# Altium footprint library Cap THD Pad.PcbLib: 2 footprints
Each footprint in its own frame and in the unit in brackets; x right, y up, seen from the top. Pads: shape width x height; smd on the part's side, far side on the other; paste and mask are expansions set on the pad; w line width, h text height; cw(c..) or ccw(c..) is an arc to the next point about the centre after c.
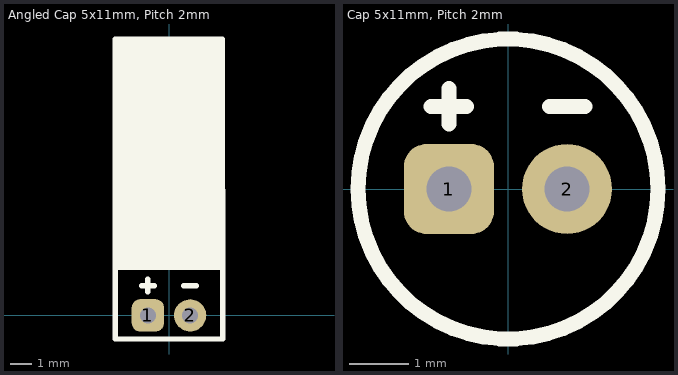
[diagram p0: the footprints below, top view; thin cyan lines are the x and y axes]

## Angled Cap 5x11mm, Pitch 2mm [mil] "Aluminum Electrolytic Capacitors Angled 5x11mm, 2mm Pin Pitch"
pads (2):
  rrect50% 60x60 hole 30: 1(-39.37,0)
  round 60 hole 30: 2(39.37,0)
Top Overlay:
  rectangle: -100,84 100,514
  lines w10: -100,514 -100,-44 ; -99,-44 -100,-44 ; -99,514 99,514 100,-44 -100,-44 ; -51.18,55.12 -27.56,55.12 ; -39.37,43.31 -39.37,66.93 ; 27.56,55.12 51.18,55.12
3D body "Cap Alu 5x11x2mm Angled.step": height 199.43, standoff -136.22, extent -99.42,-10.69 99.43,513.76

## Cap 5x11mm, Pitch 2mm [mil] "Aluminum Electrolytic Capacitors Vertical 5x11mm, 2mm Pin Pitch"
pads (2):
  rrect50% 60x60 hole 30: 1(-39.37,0)
  round 60 hole 30: 2(39.37,0)
Top Overlay:
  circle w10: c0,0 r100
  lines w10: -51.18,55.12 -27.56,55.12 ; -39.37,43.31 -39.37,66.93 ; 27.56,55.12 51.18,55.12
3D body "Cap Alu 5x11x2mm.step": height 443.76, standoff -138.81, extent -99.42,-99.42 99.43,99.43